# EAGLE library part 750311590 (library trafo-worth)
TRANSFORMER
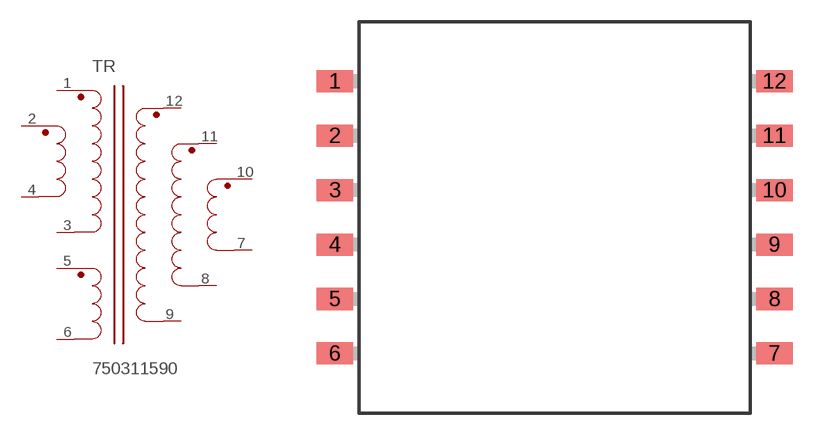
[diagram p0: symbol with the pads of 750311590; footprint 750311590]

Designator prefix TR

## 750311590  [750311590]
1  1  pas
2  2  pas
3  3  pas
4  4  pas
5  5  pas
6  6  pas
7  7  pas
8  8  pas
9  9  pas
10  10  pas
11  11  pas
12  12  pas

## Footprint 750311590 (pad centres in mm)
TRANSFORMER
smd 2.54 x 1.524: 1 -15.19,9.4; 2 -15.19,5.64; 3 -15.19,1.88; 4 -15.19,-1.88; 5 -15.19,-5.64; 6 -15.19,-9.4; 7 15.19,-9.4; 8 15.19,-5.64; 9 15.19,-1.88; 10 15.19,1.88; 11 15.19,5.64; 12 15.19,9.4